# Altium footprint library CAPC_1808.PcbLib: 1 footprints
Each footprint in its own frame and in the unit in brackets; x right, y up, seen from the top. Pads: shape width x height; smd on the part's side, far side on the other; paste and mask are expansions set on the pad; w line width, h text height; cw(c..) or ccw(c..) is an arc to the next point about the centre after c.
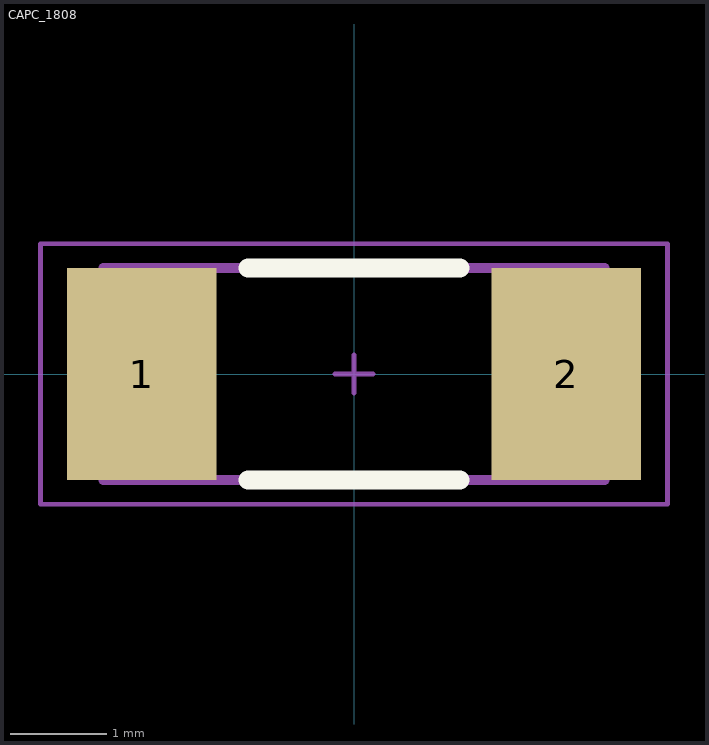
[diagram p0: the footprint, top view; thin cyan lines are the x and y axes]

## CAPC_1808 [mm] "CAPC_1808"
height 2.15
pads (2):
  rect 1.55x2.2 smd: 1(-2.2,0) 2(2.2,0)
Top Overlay:
  lines w0.2: -1.1,-1.1 1.1,-1.1 ; -1.1,1.1 1.1,1.1
Mechanical 13:
  lines w0.1: -2.6,-1.1 2.6,-1.1 2.6,1.1 -2.6,1.1 -2.6,-1.1
Mechanical 15:
  lines w0.05: -0.2,0 0.2,0 ; 0,-0.2 0,0.2 ; -3.25,-1.35 -3.25,1.35 3.25,1.35 3.25,-1.35 -3.25,-1.35
3D body: height 2.15, standoff 0, extent -2.6,-1.1 2.6,1.1